# Altium footprint library Main_Board.PcbLib: 50 footprints (part 2 of 4)
Each footprint in its own frame and in the unit in brackets; x right, y up, seen from the top. Pads: shape width x height; smd on the part's side, far side on the other; paste and mask are expansions set on the pad; w line width, h text height; cw(c..) or ccw(c..) is an arc to the next point about the centre after c.
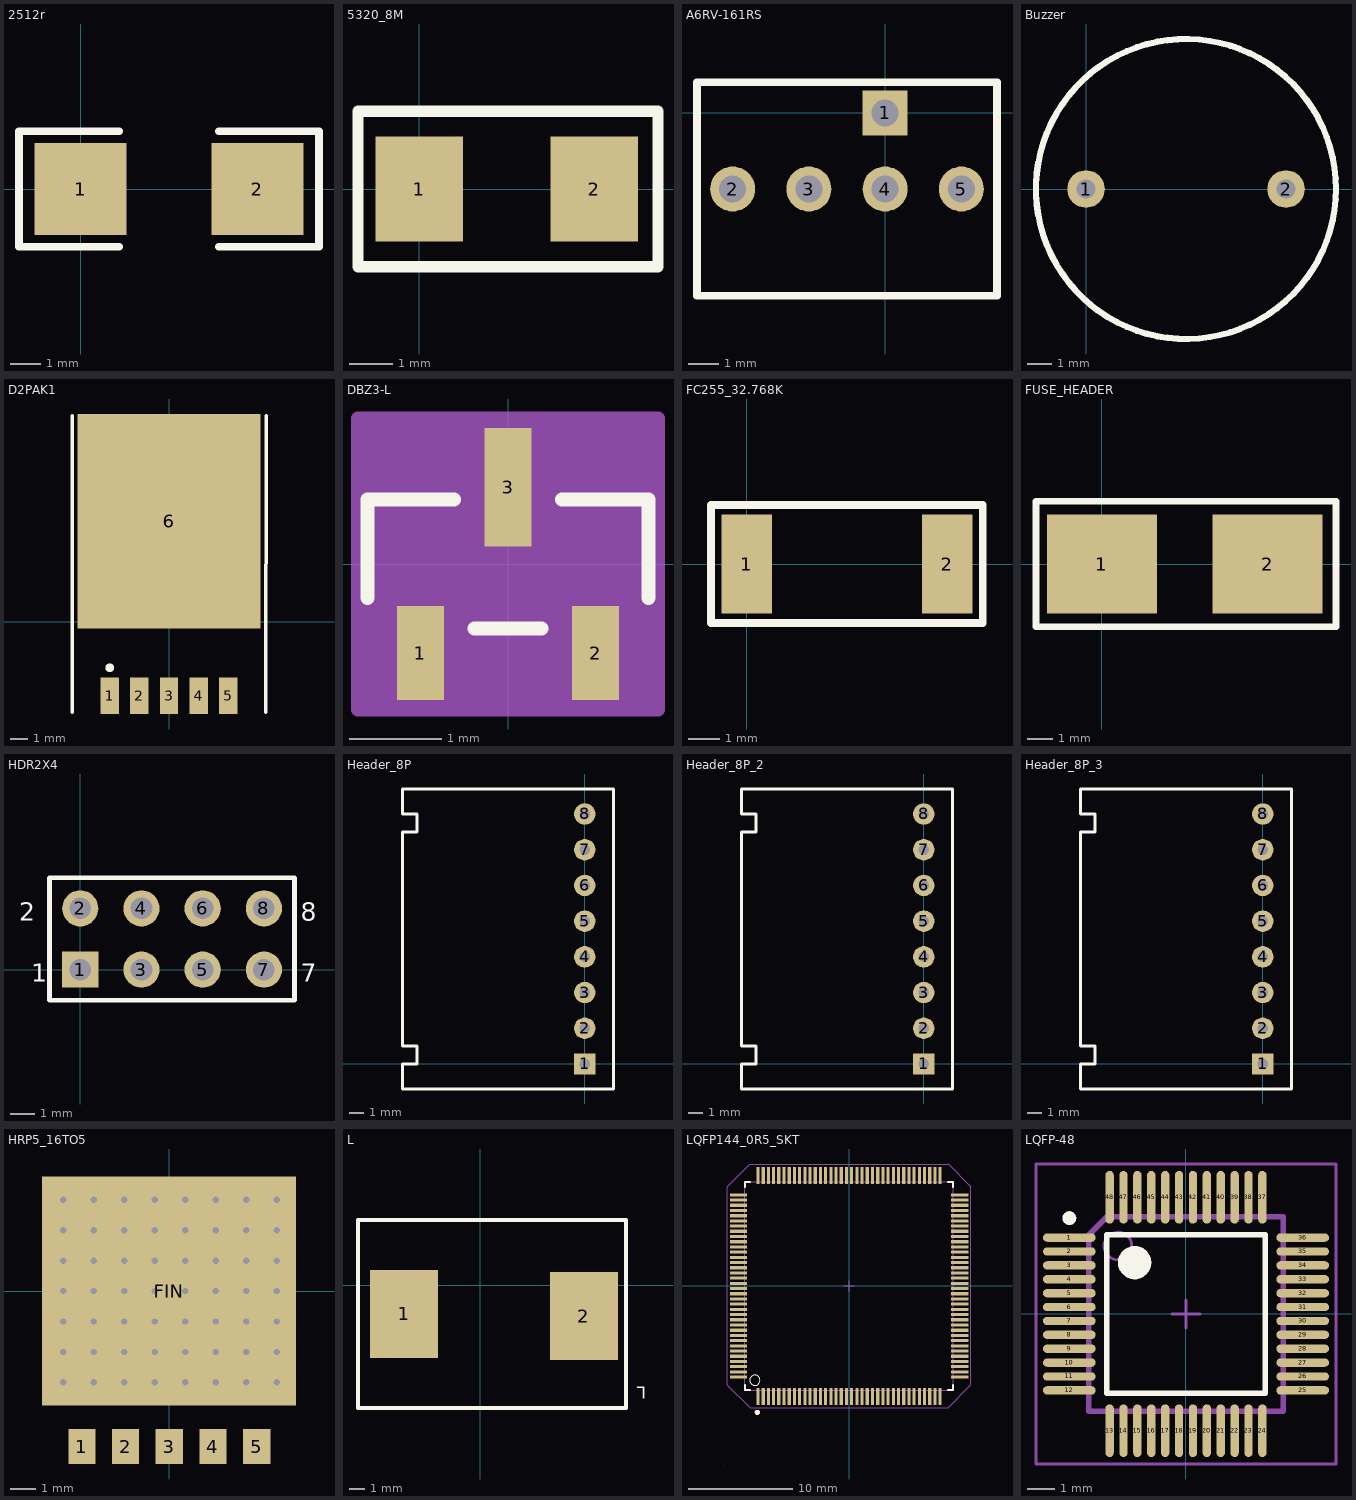
[diagram p1: the footprints below, top view; thin cyan lines are the x and y axes]

## 2512r [mil] "Chip Resistor; Body 6.3 x 3.2 mm (L"
height 23.62
pads (2):
  rect 120x120 smd: 1(0,0) 2(230,0)
Top Overlay:
  lines w10: 50,-75 -80,-75 -80,75 50,75 ; 180,-75 310,-75 310,75 180,75

## 5320_8M [mm]
pads (2):
  rect 2x2.4 smd: 1(0,0) 2(4,0)
Top Overlay:
  lines w0.254: -1.397,-1.778 5.461,-1.778 5.461,1.778 -1.397,1.778 -1.397,-1.778

## A6RV-161RS [mm] "旋转开?"
height 10
pads (5):
  rect 1.5x1.5 hole 0.9: 1(0,0)
  round 1.5 hole 0.9: 2(-5.08,-2.54) 3(-2.54,-2.54) 4(0,-2.54) 5(2.54,-2.54)
Top Overlay:
  lines w0.254: -6.27,-6.096 -6.27,1.016 ; 3.73,-6.096 -6.223,-6.096 3.73,-6.096 ; 3.73,-6.096 3.73,1.016 ; 3.73,1.016 -6.223,1.016 3.73,1.016

## Buzzer [mil]
height 250
pads (2):
  round 60 hole 30: 1(0,0) 2(320,0)
Top Overlay:
  circle w10: c160,0 r240

## D2PAK1 [mm]
height 5.08
pads (6):
  rect 1.05x2.1 smd: 1(-3.4,-4.225) 2(-1.7,-4.225) 3(0,-4.225) 4(1.7,-4.225) 5(3.4,-4.225)
  rect 10.5x12.3 smd: 6(0,5.766)
Top Overlay:
  circle w0.25: c-3.4,-2.625 r0.125
  lines w0.2: -5.55,-5.175 -5.55,11.825 ; 5.55,-5.175 5.563,11.825

## DBZ3-L [mil]
pads (3):
  rect 20x40 smd: 1(-37.4,-38) 2(37.4,-38)
  rect 20x50.5 smd: 3(0,32.75)
Top Overlay:
  lines w6: -60,-14.41 -60,27.5 -23.1,27.5 ; -14.3,-27.5 14.3,-27.5 ; 23.1,27.5 60,27.5 60,-14.41
Mechanical 13:
  lines w1: -60,-27.5 60,-27.5 60,27.5 -60,27.5 -60,-27.5 ; -47.4,-52 -47.4,-27.5 -27.4,-27.5 -27.4,-52 -47.4,-52 ; -10,27.5 10,27.5 10,52 -10,52 -10,27.5 ; 27.4,-52 27.4,-27.5 47.4,-27.5 47.4,-52 27.4,-52
Mechanical 15:
  region: 64,-62 -64,-62 -64,62 64,62
  lines w6: -64,-62 -64,62 64,62 64,-62 -64,-62
3D body: height 10, standoff 0, extent 0,0 10,10

## FC255_32.768K [mm]
pads (2):
  rect 1.63x3.2 smd: 1(0,0) 2(6.48,0)
Top Overlay:
  lines w0.254: -1.143,-1.905 7.62,-1.905 7.62,1.905 -1.143,1.905 -1.143,-1.905

## FUSE_HEADER [mm]
pads (2):
  rect 4.24x3.81 smd: 1(0,0) 2(6.38,0)
Top Overlay:
  lines w0.254: -2.54,-2.413 -2.54,2.413 9.017,2.413 9.017,-2.413 -2.54,-2.413

## HDR2X4 [mm] "Connector; Header; 4x2 Position"
pads (8):
  rect 1.5x1.5 hole 0.9: 1(0,0)
  round 1.5 hole 0.9: 2(0,2.54) 3(2.54,0) 4(2.54,2.54) 5(5.08,0) 6(5.08,2.54) 7(7.62,0) 8(7.62,2.54)
Top Overlay:
  lines w0.2: -1.27,-1.27 8.89,-1.27 8.89,3.81 -1.27,3.81 -1.27,-1.27
  text "2" at -2.54,2.032 h0.76
  text "1" at -2.032,-0.508 h0.76
  text "7" at 9.144,-0.508 h0.76
  text "8" at 9.144,2.032 h0.76

## Header_8P [mil] "Used for Motor connecter in ZJUNlict"
pads (8):
  rect 60x60 hole 30: 1(0,0)
  round 60 hole 30: 2(0,100) 3(0,200) 4(0,300) 5(0,400) 6(0,500) 7(0,600) 8(0,700)
Top Overlay:
  lines w8: -510,-70 80,-70 80,770 -510,770 -510,700 -470,700 -470,650 -510,650 -510,50 -470,50 -470,0 -510,0 -510,-70

## Header_8P_2 [mil]
pads (8):
  rect 60x60 hole 30: 1(0,0)
  round 60 hole 30: 2(0,100) 3(0,200) 4(0,300) 5(0,400) 6(0,500) 7(0,600) 8(0,700)
Top Overlay:
  lines w8: -510,-70 80,-70 80,770 -510,770 -510,700 -470,700 -470,650 -510,650 -510,50 -470,50 -470,0 -510,0 -510,-70

## Header_8P_3 [mil]
pads (8):
  rect 60x60 hole 30: 1(0,0)
  round 60 hole 30: 2(0,100) 3(0,200) 4(0,300) 5(0,400) 6(0,500) 7(0,600) 8(0,700)
Top Overlay:
  lines w8: -510,-70 -510,0 -470,0 -470,50 -510,50 -510,650 -470,650 -470,700 -510,700 -510,770 80,770 80,-70 -510,-70

## HRP5_16TO5 [mm]
pads (6):
  rect 1.07x1.37 smd: 1(-3.429,-6.125) 2(-1.709,-6.125) 3(0.011,-6.125) 4(1.731,-6.125) 5(3.451,-6.125)
  rect 10x9 smd: FIN(0,0)
via -2.965,3.6 diameter 0.508 hole 0.254
via -4.165,3.6 diameter 0.508 hole 0.254
via -1.765,3.6 diameter 0.508 hole 0.254
via 0.635,3.6 diameter 0.508 hole 0.254
via -0.565,3.6 diameter 0.508 hole 0.254
via 4.235,3.6 diameter 0.508 hole 0.254
via 3.035,3.6 diameter 0.508 hole 0.254
via 1.835,3.6 diameter 0.508 hole 0.254
via -2.965,2.4 diameter 0.508 hole 0.254
via -4.165,2.4 diameter 0.508 hole 0.254
via -1.765,2.4 diameter 0.508 hole 0.254
via 0.635,2.4 diameter 0.508 hole 0.254
via -0.565,2.4 diameter 0.508 hole 0.254
via 4.235,2.4 diameter 0.508 hole 0.254
via 3.035,2.4 diameter 0.508 hole 0.254
via 1.835,2.4 diameter 0.508 hole 0.254
via -2.965,1.2 diameter 0.508 hole 0.254
via -4.165,1.2 diameter 0.508 hole 0.254
via -1.765,1.2 diameter 0.508 hole 0.254
via 0.635,1.2 diameter 0.508 hole 0.254
via -0.565,1.2 diameter 0.508 hole 0.254
via 4.235,1.2 diameter 0.508 hole 0.254
via 3.035,1.2 diameter 0.508 hole 0.254
via 1.835,1.2 diameter 0.508 hole 0.254
via -2.965,0 diameter 0.508 hole 0.254
via -4.165,0 diameter 0.508 hole 0.254
via -1.765,0 diameter 0.508 hole 0.254
via 0.635,0 diameter 0.508 hole 0.254
via -0.565,0 diameter 0.508 hole 0.254
via 4.235,0 diameter 0.508 hole 0.254
via 3.035,0 diameter 0.508 hole 0.254
via 1.835,0 diameter 0.508 hole 0.254
via -2.965,-1.2 diameter 0.508 hole 0.254
via -4.165,-1.2 diameter 0.508 hole 0.254
via -1.765,-1.2 diameter 0.508 hole 0.254
via 0.635,-1.2 diameter 0.508 hole 0.254
via -0.565,-1.2 diameter 0.508 hole 0.254
via 4.235,-1.2 diameter 0.508 hole 0.254
via 3.035,-1.2 diameter 0.508 hole 0.254
via 1.835,-1.2 diameter 0.508 hole 0.254
via -2.965,-3.6 diameter 0.508 hole 0.254
via -4.165,-3.6 diameter 0.508 hole 0.254
via -1.765,-3.6 diameter 0.508 hole 0.254
via 0.635,-3.6 diameter 0.508 hole 0.254
via -0.565,-3.6 diameter 0.508 hole 0.254
via 4.235,-3.6 diameter 0.508 hole 0.254
via 3.035,-3.6 diameter 0.508 hole 0.254
via 1.835,-3.6 diameter 0.508 hole 0.254
via 1.835,-2.4 diameter 0.508 hole 0.254
via 3.035,-2.4 diameter 0.508 hole 0.254
via 4.235,-2.4 diameter 0.508 hole 0.254
via -0.565,-2.4 diameter 0.508 hole 0.254
via 0.635,-2.4 diameter 0.508 hole 0.254
via -1.765,-2.4 diameter 0.508 hole 0.254
via -4.165,-2.4 diameter 0.508 hole 0.254
via -2.965,-2.4 diameter 0.508 hole 0.254

## L [mil]
height 57.09
pads (2):
  rect 170x220 smd: 1(-190,-72.5) 2(260,-77.5)
Top Overlay:
  lines w10: -305,-307.5 -305,162.5 365,162.5 365,-307.5 -305,-307.5
  text "L" at 415,-255 h30

## LQFP144_0R5_SKT [mm] "32-bit MCU ARM-based Cortex-M3 20 X 20mm, 0.5mm Pitch, 1.6mm Max thickness"
height 1.6
pads (144):
  rect 0.3x1.65 smd: 1(-8.75,-10.625) 2(-8.25,-10.625) 3(-7.75,-10.625) 4(-7.25,-10.625) 5(-6.75,-10.625) 6(-6.25,-10.625) 7(-5.75,-10.625) 8(-5.25,-10.625) 9(-4.75,-10.625) 10(-4.25,-10.625) 11(-3.75,-10.625) 12(-3.25,-10.625) 13(-2.75,-10.625) 14(-2.25,-10.625) 15(-1.75,-10.625) 16(-1.25,-10.625) 17(-0.75,-10.625) 18(-0.25,-10.625) 19(0.25,-10.625) 20(0.75,-10.625) 21(1.25,-10.625) 22(1.75,-10.625) 23(2.25,-10.625) 24(2.75,-10.625) 25(3.25,-10.625) 26(3.75,-10.625) 27(4.25,-10.625) 28(4.75,-10.625) 29(5.25,-10.625) 30(5.75,-10.625) 31(6.25,-10.625) 32(6.75,-10.625) 33(7.25,-10.625) 34(7.75,-10.625) 35(8.25,-10.625) 36(8.75,-10.625) 73(8.75,10.625) 74(8.25,10.625) 75(7.75,10.625) 76(7.25,10.625) 77(6.75,10.625) 78(6.25,10.625) 79(5.75,10.625) 80(5.25,10.625) 81(4.75,10.625) 82(4.25,10.625) 83(3.75,10.625) 84(3.25,10.625) 85(2.75,10.625) 86(2.25,10.625) 87(1.75,10.625) 88(1.25,10.625) 89(0.75,10.625) 90(0.25,10.625) 91(-0.25,10.625) 92(-0.75,10.625) 93(-1.25,10.625) 94(-1.75,10.625) 95(-2.25,10.625) 96(-2.75,10.625) 97(-3.25,10.625) 98(-3.75,10.625) 99(-4.25,10.625) 100(-4.75,10.625) 101(-5.25,10.625) 102(-5.75,10.625) 103(-6.25,10.625) 104(-6.75,10.625) 105(-7.25,10.625) 106(-7.75,10.625) 107(-8.25,10.625) 108(-8.75,10.625)
  rect 1.65x0.3 smd: 37(10.625,-8.75) 38(10.625,-8.25) 39(10.625,-7.75) 40(10.625,-7.25) 41(10.625,-6.75) 42(10.625,-6.25) 43(10.625,-5.75) 44(10.625,-5.25) 45(10.625,-4.75) 46(10.625,-4.25) 47(10.625,-3.75) 48(10.625,-3.25) 49(10.625,-2.75) 50(10.625,-2.25) 51(10.625,-1.75) 52(10.625,-1.25) 53(10.625,-0.75) 54(10.625,-0.25) 55(10.625,0.25) 56(10.625,0.75) 57(10.625,1.25) 58(10.625,1.75) 59(10.625,2.25) 60(10.625,2.75) 61(10.625,3.25) 62(10.625,3.75) 63(10.625,4.25) 64(10.625,4.75) 65(10.625,5.25) 66(10.625,5.75) 67(10.625,6.25) 68(10.625,6.75) 69(10.625,7.25) 70(10.625,7.75) 71(10.625,8.25) 72(10.625,8.75) 109(-10.625,8.75) 110(-10.625,8.25) 111(-10.625,7.75) 112(-10.625,7.25) 113(-10.625,6.75) 114(-10.625,6.25) 115(-10.625,5.75) 116(-10.625,5.25) 117(-10.625,4.75) 118(-10.625,4.25) 119(-10.625,3.75) 120(-10.625,3.25) 121(-10.625,2.75) 122(-10.625,2.25) 123(-10.625,1.75) 124(-10.625,1.25) 125(-10.625,0.75) 126(-10.625,0.25) 127(-10.625,-0.25) 128(-10.625,-0.75) 129(-10.625,-1.25) 130(-10.625,-1.75) 131(-10.625,-2.25) 132(-10.625,-2.75) 133(-10.625,-3.25) 134(-10.625,-3.75) 135(-10.625,-4.25) 136(-10.625,-4.75) 137(-10.625,-5.25) 138(-10.625,-5.75) 139(-10.625,-6.25) 140(-10.625,-6.75) 141(-10.625,-7.25) 142(-10.625,-7.75) 143(-10.625,-8.25) 144(-10.625,-8.75)
Top Overlay:
  circle w0.25: c-8.812,-12.141 r0.125
  circle w0.1: c-9.05,-9.05 r0.5
  lines w0.2: -10,-9.5 -10,-10 -9.5,-10 ; -10,9.5 -10,10 -9.5,10 ; 9.5,-10 10,-10 10,-9.5 ; 9.5,10 10,10 10,9.5
Mechanical 13:
  lines w0.1: -10,-10 -10,10 10,10 10,-10 -10,-10
  lines w0.127: -12.1,-17.1 -12.1,-17.1
Mechanical 15:
  lines w0.1: -11.7,-9.541 -11.685,-9.526 -9.511,-11.7 ; -11.7,-9.5 -11.7,9.5 ; -11.7,9.511 -11.715,9.526 -9.541,11.7 ; -9.5,-11.7 9.5,-11.7 ; -9.5,11.7 9.5,11.7 ; -0.5,0 0.5,0 ; 0,-0.5 0,0.5 ; 9.511,11.7 9.526,11.715 11.7,9.541 ; 9.541,-11.7 9.526,-11.685 11.7,-9.511 ; 11.7,-9.5 11.7,9.5
3D body: height 7, standoff 0, extent 10.269,-8.852 10.371,-8.648
3D body: height 0.1, standoff 0, extent 10.371,-8.852 10.93,-8.648
3D body: height 0.1, standoff 0, extent 10.371,-8.352 10.93,-8.148
3D body: height 7, standoff 0, extent 10.269,-8.352 10.371,-8.148
3D body: height 0.1, standoff 0, extent 10.371,-7.852 10.93,-7.648
3D body: height 7, standoff 0, extent 10.269,-7.852 10.371,-7.648
3D body: height 0.1, standoff 0, extent 10.371,-7.352 10.93,-7.148
3D body: height 7, standoff 0, extent 10.269,-7.352 10.371,-7.148
3D body: height 0.1, standoff 0, extent 10.371,-6.852 10.93,-6.648
3D body: height 7, standoff 0, extent 10.269,-6.852 10.371,-6.648
3D body: height 0.1, standoff 0, extent 10.371,-6.352 10.93,-6.148
3D body: height 7, standoff 0, extent 10.269,-6.352 10.371,-6.148
3D body: height 0.1, standoff 0, extent 10.371,-6.352 10.93,-6.148
3D body: height 7, standoff 0, extent 10.269,-6.352 10.371,-6.148
3D body: height 0.1, standoff 0, extent 10.371,-5.852 10.93,-5.648
3D body: height 7, standoff 0, extent 10.269,-5.852 10.371,-5.648
3D body: height 0.1, standoff 0, extent 10.371,-5.352 10.93,-5.148
3D body: height 7, standoff 0, extent 10.269,-5.352 10.371,-5.148
3D body: height 0.1, standoff 0, extent 10.371,-4.852 10.93,-4.648
3D body: height 7, standoff 0, extent 10.269,-4.852 10.371,-4.648
3D body: height 0.1, standoff 0, extent 10.371,-4.352 10.93,-4.148
3D body: height 7, standoff 0, extent 10.269,-4.352 10.371,-4.148
3D body: height 0.1, standoff 0, extent 10.371,-3.852 10.93,-3.648
3D body: height 7, standoff 0, extent 10.269,-3.852 10.371,-3.648
3D body: height 0.1, standoff 0, extent 10.371,-3.352 10.93,-3.148
3D body: height 7, standoff 0, extent 10.269,-3.352 10.371,-3.148
3D body: height 0.1, standoff 0, extent 10.371,-2.852 10.93,-2.648
3D body: height 7, standoff 0, extent 10.269,-2.852 10.371,-2.648
3D body: height 0.1, standoff 0, extent 10.371,-2.352 10.93,-2.148
3D body: height 7, standoff 0, extent 10.269,-2.352 10.371,-2.148
3D body: height 0.1, standoff 0, extent 10.371,-1.852 10.93,-1.648
3D body: height 7, standoff 0, extent 10.269,-1.852 10.371,-1.648
3D body: height 0.1, standoff 0, extent 10.371,-1.352 10.93,-1.148
3D body: height 7, standoff 0, extent 10.269,-1.352 10.371,-1.148
3D body: height 0.1, standoff 0, extent 10.371,-0.852 10.93,-0.648
3D body: height 7, standoff 0, extent 10.269,-0.852 10.371,-0.648
3D body: height 0.1, standoff 0, extent 10.371,-0.352 10.93,-0.148
3D body: height 7, standoff 0, extent 10.269,-0.352 10.371,-0.148
3D body: height 0.1, standoff 0, extent 10.371,0.148 10.93,0.352
3D body: height 7, standoff 0, extent 10.269,0.148 10.371,0.352
3D body: height 0.1, standoff 0, extent 10.371,0.648 10.93,0.852
3D body: height 7, standoff 0, extent 10.269,0.648 10.371,0.852
3D body: height 0.1, standoff 0, extent 10.371,1.148 10.93,1.352
3D body: height 7, standoff 0, extent 10.269,1.148 10.371,1.352
3D body: height 0.1, standoff 0, extent 10.371,1.648 10.93,1.852
3D body: height 7, standoff 0, extent 10.269,1.648 10.371,1.852
3D body: height 0.1, standoff 0, extent 10.371,2.148 10.93,2.352
3D body: height 7, standoff 0, extent 10.269,2.148 10.371,2.352
3D body: height 0.1, standoff 0, extent 10.371,2.648 10.93,2.852
3D body: height 7, standoff 0, extent 10.269,2.648 10.371,2.852
3D body: height 0.1, standoff 0, extent 10.371,3.148 10.93,3.352
3D body: height 7, standoff 0, extent 10.269,3.148 10.371,3.352
3D body: height 0.1, standoff 0, extent 10.371,3.648 10.93,3.852
3D body: height 7, standoff 0, extent 10.269,3.648 10.371,3.852
3D body: height 0.1, standoff 0, extent 10.371,4.148 10.93,4.352
3D body: height 7, standoff 0, extent 10.269,4.148 10.371,4.352
3D body: height 0.1, standoff 0, extent 10.371,4.648 10.93,4.852
3D body: height 7, standoff 0, extent 10.269,4.648 10.371,4.852
3D body: height 0.1, standoff 0, extent 10.371,5.148 10.93,5.352
3D body: height 7, standoff 0, extent 10.269,5.148 10.371,5.352
3D body: height 0.1, standoff 0, extent 10.371,5.648 10.93,5.852
3D body: height 7, standoff 0, extent 10.269,5.648 10.371,5.852
3D body: height 0.1, standoff 0, extent 10.371,6.148 10.93,6.352
3D body: height 7, standoff 0, extent 10.269,6.148 10.371,6.352
3D body: height 0.1, standoff 0, extent 10.371,6.648 10.93,6.852
3D body: height 7, standoff 0, extent 10.269,6.648 10.371,6.852
3D body: height 0.1, standoff 0, extent 10.371,7.148 10.93,7.352
3D body: height 7, standoff 0, extent 10.269,7.148 10.371,7.352
3D body: height 0.1, standoff 0, extent 10.371,7.648 10.93,7.852
3D body: height 7, standoff 0, extent 10.269,7.648 10.371,7.852
3D body: height 0.1, standoff 0, extent 10.371,8.148 10.93,8.352
3D body: height 7, standoff 0, extent 10.269,8.148 10.371,8.352
3D body: height 0.1, standoff 0, extent 10.371,8.648 10.93,8.852
3D body: height 7, standoff 0, extent 10.269,8.648 10.371,8.852
3D body: height 7, standoff 0, extent 8.648,10.269 8.852,10.371
3D body: height 0.1, standoff 0, extent 8.648,10.371 8.852,10.93
3D body: height 0.1, standoff 0, extent 8.148,10.371 8.352,10.93
3D body: height 7, standoff 0, extent 8.148,10.269 8.352,10.371
3D body: height 0.1, standoff 0, extent 7.648,10.371 7.852,10.93
3D body: height 7, standoff 0, extent 7.648,10.269 7.852,10.371
3D body: height 0.1, standoff 0, extent 7.148,10.371 7.352,10.93
3D body: height 7, standoff 0, extent 7.148,10.269 7.352,10.371
3D body: height 0.1, standoff 0, extent 6.648,10.371 6.852,10.93
3D body: height 7, standoff 0, extent 6.648,10.269 6.852,10.371
3D body: height 0.1, standoff 0, extent 6.148,10.371 6.352,10.93
3D body: height 7, standoff 0, extent 6.148,10.269 6.352,10.371
3D body: height 0.1, standoff 0, extent 6.148,10.371 6.352,10.93
3D body: height 7, standoff 0, extent 6.148,10.269 6.352,10.371
3D body: height 0.1, standoff 0, extent 5.648,10.371 5.852,10.93
3D body: height 7, standoff 0, extent 5.648,10.269 5.852,10.371
3D body: height 0.1, standoff 0, extent 5.148,10.371 5.352,10.93
3D body: height 7, standoff 0, extent 5.148,10.269 5.352,10.371
3D body: height 0.1, standoff 0, extent 4.648,10.371 4.852,10.93
3D body: height 7, standoff 0, extent 4.648,10.269 4.852,10.371
3D body: height 0.1, standoff 0, extent 4.148,10.371 4.352,10.93
3D body: height 7, standoff 0, extent 4.148,10.269 4.352,10.371
3D body: height 0.1, standoff 0, extent 3.648,10.371 3.852,10.93
3D body: height 7, standoff 0, extent 3.648,10.269 3.852,10.371
3D body: height 0.1, standoff 0, extent 3.148,10.371 3.352,10.93
3D body: height 7, standoff 0, extent 3.148,10.269 3.352,10.371
3D body: height 0.1, standoff 0, extent 2.648,10.371 2.852,10.93
3D body: height 7, standoff 0, extent 2.648,10.269 2.852,10.371
3D body: height 0.1, standoff 0, extent 2.148,10.371 2.352,10.93
3D body: height 7, standoff 0, extent 2.148,10.269 2.352,10.371
3D body: height 0.1, standoff 0, extent 1.648,10.371 1.852,10.93
3D body: height 7, standoff 0, extent 1.648,10.269 1.852,10.371
3D body: height 0.1, standoff 0, extent 1.148,10.371 1.352,10.93
3D body: height 7, standoff 0, extent 1.148,10.269 1.352,10.371
3D body: height 0.1, standoff 0, extent 0.648,10.371 0.852,10.93
3D body: height 7, standoff 0, extent 0.648,10.269 0.852,10.371
3D body: height 0.1, standoff 0, extent 0.148,10.371 0.352,10.93
3D body: height 7, standoff 0, extent 0.148,10.269 0.352,10.371
3D body: height 0.1, standoff 0, extent -0.352,10.371 -0.148,10.93
3D body: height 7, standoff 0, extent -0.352,10.269 -0.148,10.371
3D body: height 0.1, standoff 0, extent -0.852,10.371 -0.648,10.93
3D body: height 7, standoff 0, extent -0.852,10.269 -0.648,10.371
3D body: height 0.1, standoff 0, extent -1.352,10.371 -1.148,10.93
3D body: height 7, standoff 0, extent -1.352,10.269 -1.148,10.371
3D body: height 0.1, standoff 0, extent -1.852,10.371 -1.648,10.93
3D body: height 7, standoff 0, extent -1.852,10.269 -1.648,10.371
3D body: height 0.1, standoff 0, extent -2.352,10.371 -2.148,10.93
3D body: height 7, standoff 0, extent -2.352,10.269 -2.148,10.371
3D body: height 0.1, standoff 0, extent -2.852,10.371 -2.648,10.93
3D body: height 7, standoff 0, extent -2.852,10.269 -2.648,10.371
3D body: height 0.1, standoff 0, extent -3.352,10.371 -3.148,10.93
3D body: height 7, standoff 0, extent -3.352,10.269 -3.148,10.371
3D body: height 0.1, standoff 0, extent -3.852,10.371 -3.648,10.93
3D body: height 7, standoff 0, extent -3.852,10.269 -3.648,10.371
3D body: height 0.1, standoff 0, extent -4.352,10.371 -4.148,10.93
3D body: height 7, standoff 0, extent -4.352,10.269 -4.148,10.371
3D body: height 0.1, standoff 0, extent -4.852,10.371 -4.648,10.93
3D body: height 7, standoff 0, extent -4.852,10.269 -4.648,10.371
3D body: height 0.1, standoff 0, extent -5.352,10.371 -5.148,10.93
3D body: height 7, standoff 0, extent -5.352,10.269 -5.148,10.371
3D body: height 0.1, standoff 0, extent -5.852,10.371 -5.648,10.93
3D body: height 7, standoff 0, extent -5.852,10.269 -5.648,10.371
3D body: height 0.1, standoff 0, extent -6.352,10.371 -6.148,10.93
3D body: height 7, standoff 0, extent -6.352,10.269 -6.148,10.371
3D body: height 0.1, standoff 0, extent -6.852,10.371 -6.648,10.93
3D body: height 7, standoff 0, extent -6.852,10.269 -6.648,10.371
3D body: height 0.1, standoff 0, extent -7.352,10.371 -7.148,10.93
3D body: height 7, standoff 0, extent -7.352,10.269 -7.148,10.371
3D body: height 0.1, standoff 0, extent -7.852,10.371 -7.648,10.93
3D body: height 7, standoff 0, extent -7.852,10.269 -7.648,10.371
3D body: height 0.1, standoff 0, extent -8.352,10.371 -8.148,10.93
3D body: height 7, standoff 0, extent -8.352,10.269 -8.148,10.371
3D body: height 0.1, standoff 0, extent -8.852,10.371 -8.648,10.93
3D body: height 7, standoff 0, extent -8.852,10.269 -8.648,10.371
3D body: height 7, standoff 0, extent -10.371,8.648 -10.269,8.852
3D body: height 0.1, standoff 0, extent -10.93,8.648 -10.371,8.852
3D body: height 0.1, standoff 0, extent -10.93,8.148 -10.371,8.352
3D body: height 7, standoff 0, extent -10.371,8.148 -10.269,8.352
3D body: height 0.1, standoff 0, extent -10.93,7.648 -10.371,7.852
3D body: height 7, standoff 0, extent -10.371,7.648 -10.269,7.852
3D body: height 0.1, standoff 0, extent -10.93,7.148 -10.371,7.352
3D body: height 7, standoff 0, extent -10.371,7.148 -10.269,7.352
3D body: height 0.1, standoff 0, extent -10.93,6.648 -10.371,6.852
3D body: height 7, standoff 0, extent -10.371,6.648 -10.269,6.852
3D body: height 0.1, standoff 0, extent -10.93,6.148 -10.371,6.352
3D body: height 7, standoff 0, extent -10.371,6.148 -10.269,6.352
3D body: height 0.1, standoff 0, extent -10.93,6.148 -10.371,6.352
3D body: height 7, standoff 0, extent -10.371,6.148 -10.269,6.352
3D body: height 0.1, standoff 0, extent -10.93,5.648 -10.371,5.852
3D body: height 7, standoff 0, extent -10.371,5.648 -10.269,5.852
3D body: height 0.1, standoff 0, extent -10.93,5.148 -10.371,5.352
3D body: height 7, standoff 0, extent -10.371,5.148 -10.269,5.352
3D body: height 0.1, standoff 0, extent -10.93,4.648 -10.371,4.852
3D body: height 7, standoff 0, extent -10.371,4.648 -10.269,4.852
3D body: height 0.1, standoff 0, extent -10.93,4.148 -10.371,4.352
3D body: height 7, standoff 0, extent -10.371,4.148 -10.269,4.352
3D body: height 0.1, standoff 0, extent -10.93,3.648 -10.371,3.852
3D body: height 7, standoff 0, extent -10.371,3.648 -10.269,3.852
3D body: height 0.1, standoff 0, extent -10.93,3.148 -10.371,3.352
3D body: height 7, standoff 0, extent -10.371,3.148 -10.269,3.352
3D body: height 0.1, standoff 0, extent -10.93,2.648 -10.371,2.852
3D body: height 7, standoff 0, extent -10.371,2.648 -10.269,2.852
3D body: height 0.1, standoff 0, extent -10.93,2.148 -10.371,2.352
3D body: height 7, standoff 0, extent -10.371,2.148 -10.269,2.352
3D body: height 0.1, standoff 0, extent -10.93,1.648 -10.371,1.852
3D body: height 7, standoff 0, extent -10.371,1.648 -10.269,1.852
3D body: height 0.1, standoff 0, extent -10.93,1.148 -10.371,1.352
3D body: height 7, standoff 0, extent -10.371,1.148 -10.269,1.352
3D body: height 0.1, standoff 0, extent -10.93,0.648 -10.371,0.852
3D body: height 7, standoff 0, extent -10.371,0.648 -10.269,0.852
3D body: height 0.1, standoff 0, extent -10.93,0.148 -10.371,0.352
3D body: height 7, standoff 0, extent -10.371,0.148 -10.269,0.352
3D body: height 0.1, standoff 0, extent -10.93,-0.352 -10.371,-0.148
3D body: height 7, standoff 0, extent -10.371,-0.352 -10.269,-0.148
3D body: height 0.1, standoff 0, extent -10.93,-0.852 -10.371,-0.648
3D body: height 7, standoff 0, extent -10.371,-0.852 -10.269,-0.648
3D body: height 0.1, standoff 0, extent -10.93,-1.352 -10.371,-1.148
3D body: height 7, standoff 0, extent -10.371,-1.352 -10.269,-1.148
3D body: height 0.1, standoff 0, extent -10.93,-1.852 -10.371,-1.648
3D body: height 7, standoff 0, extent -10.371,-1.852 -10.269,-1.648
3D body: height 0.1, standoff 0, extent -10.93,-2.352 -10.371,-2.148
3D body: height 7, standoff 0, extent -10.371,-2.352 -10.269,-2.148
3D body: height 0.1, standoff 0, extent -10.93,-2.852 -10.371,-2.648
3D body: height 7, standoff 0, extent -10.371,-2.852 -10.269,-2.648
3D body: height 0.1, standoff 0, extent -10.93,-3.352 -10.371,-3.148
3D body: height 7, standoff 0, extent -10.371,-3.352 -10.269,-3.148
3D body: height 0.1, standoff 0, extent -10.93,-3.852 -10.371,-3.648
3D body: height 7, standoff 0, extent -10.371,-3.852 -10.269,-3.648
3D body: height 0.1, standoff 0, extent -10.93,-4.352 -10.371,-4.148
3D body: height 7, standoff 0, extent -10.371,-4.352 -10.269,-4.148
3D body: height 0.1, standoff 0, extent -10.93,-4.852 -10.371,-4.648
3D body: height 7, standoff 0, extent -10.371,-4.852 -10.269,-4.648
3D body: height 0.1, standoff 0, extent -10.93,-5.352 -10.371,-5.148
3D body: height 7, standoff 0, extent -10.371,-5.352 -10.269,-5.148
3D body: height 0.1, standoff 0, extent -10.93,-5.852 -10.371,-5.648
3D body: height 7, standoff 0, extent -10.371,-5.852 -10.269,-5.648
3D body: height 0.1, standoff 0, extent -10.93,-6.352 -10.371,-6.148
3D body: height 7, standoff 0, extent -10.371,-6.352 -10.269,-6.148
3D body: height 0.1, standoff 0, extent -10.93,-6.852 -10.371,-6.648
3D body: height 7, standoff 0, extent -10.371,-6.852 -10.269,-6.648
3D body: height 0.1, standoff 0, extent -10.93,-7.352 -10.371,-7.148
3D body: height 7, standoff 0, extent -10.371,-7.352 -10.269,-7.148
3D body: height 0.1, standoff 0, extent -10.93,-7.852 -10.371,-7.648
3D body: height 7, standoff 0, extent -10.371,-7.852 -10.269,-7.648
3D body: height 0.1, standoff 0, extent -10.93,-8.352 -10.371,-8.148
3D body: height 7, standoff 0, extent -10.371,-8.352 -10.269,-8.148
3D body: height 0.1, standoff 0, extent -10.93,-8.852 -10.371,-8.648
3D body: height 7, standoff 0, extent -10.371,-8.852 -10.269,-8.648
3D body: height 7, standoff 0, extent 8.648,-10.371 8.852,-10.269
3D body: height 0.1, standoff 0, extent 8.648,-10.93 8.852,-10.371
3D body: height 7, standoff 0, extent 8.148,-10.371 8.352,-10.269
3D body: height 0.1, standoff 0, extent 8.148,-10.93 8.352,-10.371
3D body: height 7, standoff 0, extent 7.648,-10.371 7.852,-10.269
3D body: height 0.1, standoff 0, extent 7.648,-10.93 7.852,-10.371
3D body: height 7, standoff 0, extent 7.148,-10.371 7.352,-10.269
3D body: height 0.1, standoff 0, extent 7.148,-10.93 7.352,-10.371
3D body: height 7, standoff 0, extent 6.648,-10.371 6.852,-10.269
3D body: height 0.1, standoff 0, extent 6.648,-10.93 6.852,-10.371
3D body: height 7, standoff 0, extent 6.148,-10.371 6.352,-10.269
3D body: height 0.1, standoff 0, extent 6.148,-10.93 6.352,-10.371
3D body: height 7, standoff 0, extent 5.648,-10.371 5.852,-10.269
3D body: height 0.1, standoff 0, extent 5.648,-10.93 5.852,-10.371
3D body: height 7, standoff 0, extent 5.148,-10.371 5.352,-10.269
3D body: height 0.1, standoff 0, extent 5.148,-10.93 5.352,-10.371
3D body: height 7, standoff 0, extent 4.648,-10.371 4.852,-10.269
3D body: height 0.1, standoff 0, extent 4.648,-10.93 4.852,-10.371
3D body: height 7, standoff 0, extent 4.148,-10.371 4.352,-10.269
3D body: height 0.1, standoff 0, extent 4.148,-10.93 4.352,-10.371
3D body: height 7, standoff 0, extent 3.648,-10.371 3.852,-10.269
3D body: height 0.1, standoff 0, extent 3.648,-10.93 3.852,-10.371
3D body: height 7, standoff 0, extent 3.148,-10.371 3.352,-10.269
3D body: height 0.1, standoff 0, extent 3.148,-10.93 3.352,-10.371
3D body: height 7, standoff 0, extent 2.648,-10.371 2.852,-10.269
3D body: height 0.1, standoff 0, extent 2.648,-10.93 2.852,-10.371
3D body: height 7, standoff 0, extent 2.148,-10.371 2.352,-10.269
3D body: height 0.1, standoff 0, extent 2.148,-10.93 2.352,-10.371
3D body: height 7, standoff 0, extent 1.648,-10.371 1.852,-10.269
3D body: height 0.1, standoff 0, extent 1.648,-10.93 1.852,-10.371
3D body: height 7, standoff 0, extent 1.148,-10.371 1.352,-10.269
3D body: height 0.1, standoff 0, extent 1.148,-10.93 1.352,-10.371
3D body: height 7, standoff 0, extent 0.648,-10.371 0.852,-10.269
3D body: height 0.1, standoff 0, extent 0.648,-10.93 0.852,-10.371
3D body: height 7, standoff 0, extent 0.148,-10.371 0.352,-10.269
3D body: height 0.1, standoff 0, extent 0.148,-10.93 0.352,-10.371
3D body: height 7, standoff 0, extent -0.352,-10.371 -0.148,-10.269
3D body: height 0.1, standoff 0, extent -0.352,-10.93 -0.148,-10.371
3D body: height 7, standoff 0, extent -0.852,-10.371 -0.648,-10.269
3D body: height 0.1, standoff 0, extent -0.852,-10.93 -0.648,-10.371
3D body: height 7, standoff 0, extent -1.352,-10.371 -1.148,-10.269
3D body: height 0.1, standoff 0, extent -1.352,-10.93 -1.148,-10.371
3D body: height 7, standoff 0, extent -1.852,-10.371 -1.648,-10.269
3D body: height 0.1, standoff 0, extent -1.852,-10.93 -1.648,-10.371
3D body: height 7, standoff 0, extent -2.352,-10.371 -2.148,-10.269
3D body: height 0.1, standoff 0, extent -2.352,-10.93 -2.148,-10.371
3D body: height 7, standoff 0, extent -2.852,-10.371 -2.648,-10.269
3D body: height 0.1, standoff 0, extent -2.852,-10.93 -2.648,-10.371
3D body: height 7, standoff 0, extent -3.352,-10.371 -3.148,-10.269
3D body: height 0.1, standoff 0, extent -3.352,-10.93 -3.148,-10.371
3D body: height 7, standoff 0, extent -3.852,-10.371 -3.648,-10.269
3D body: height 0.1, standoff 0, extent -3.852,-10.93 -3.648,-10.371
3D body: height 7, standoff 0, extent -4.352,-10.371 -4.148,-10.269
3D body: height 0.1, standoff 0, extent -4.352,-10.93 -4.148,-10.371
3D body: height 7, standoff 0, extent -4.852,-10.371 -4.648,-10.269
3D body: height 0.1, standoff 0, extent -4.852,-10.93 -4.648,-10.371
3D body: height 7, standoff 0, extent -5.352,-10.371 -5.148,-10.269
3D body: height 0.1, standoff 0, extent -5.352,-10.93 -5.148,-10.371
3D body: height 7, standoff 0, extent -5.852,-10.371 -5.648,-10.269
3D body: height 0.1, standoff 0, extent -5.852,-10.93 -5.648,-10.371
3D body: height 7, standoff 0, extent -6.352,-10.371 -6.148,-10.269
3D body: height 0.1, standoff 0, extent -6.352,-10.93 -6.148,-10.371
3D body: height 7, standoff 0, extent -6.352,-10.371 -6.148,-10.269
3D body: height 0.1, standoff 0, extent -6.352,-10.93 -6.148,-10.371
3D body: height 7, standoff 0, extent -6.852,-10.371 -6.648,-10.269
3D body: height 0.1, standoff 0, extent -6.852,-10.93 -6.648,-10.371
3D body: height 7, standoff 0, extent -7.352,-10.371 -7.148,-10.269
3D body: height 0.1, standoff 0, extent -7.352,-10.93 -7.148,-10.371
3D body: height 7, standoff 0, extent -7.852,-10.371 -7.648,-10.269
3D body: height 0.1, standoff 0, extent -7.852,-10.93 -7.648,-10.371
3D body: height 7, standoff 0, extent -8.352,-10.371 -8.148,-10.269
3D body: height 0.1, standoff 0, extent -8.352,-10.93 -8.148,-10.371
3D body: height 0.1, standoff 0, extent -8.852,-10.93 -8.648,-10.371
3D body: height 7, standoff 0, extent -8.852,-10.371 -8.648,-10.269

## LQFP-48 [mm] "TSQFP, 48-Leads, Body 9,0x9,0mm (max), Pitch 0,50mm, IPC Medium Density"
height 1.2
pads (48):
  oval 1.9x0.3 smd: 1(-4.2,2.75) 2(-4.2,2.25) 3(-4.2,1.75) 4(-4.2,1.25) 5(-4.2,0.75) 6(-4.2,0.25) 7(-4.2,-0.25) 8(-4.2,-0.75) 9(-4.2,-1.25) 10(-4.2,-1.75) 11(-4.2,-2.25) 12(-4.2,-2.75) 25(4.2,-2.75) 26(4.2,-2.25) 27(4.2,-1.75) 28(4.2,-1.25) 29(4.2,-0.75) 30(4.2,-0.25) 31(4.2,0.25) 32(4.2,0.75) 33(4.2,1.25) 34(4.2,1.75) 35(4.2,2.25) 36(4.2,2.75)
  oval 0.3x1.9 smd: 13(-2.75,-4.2) 14(-2.25,-4.2) 15(-1.75,-4.2) 16(-1.25,-4.2) 17(-0.75,-4.2) 18(-0.25,-4.2) 19(0.25,-4.2) 20(0.75,-4.2) 21(1.25,-4.2) 22(1.75,-4.2) 23(2.25,-4.2) 24(2.75,-4.2) 37(2.75,4.2) 38(2.25,4.2) 39(1.75,4.2) 40(1.25,4.2) 41(0.75,4.2) 42(0.25,4.2) 43(-0.25,4.2) 44(-0.75,4.2) 45(-1.25,4.2) 46(-1.75,4.2) 47(-2.25,4.2) 48(-2.75,4.2)
Top Overlay:
  circle w0.6: c-1.85,1.85 r0.3
  circle w0.25: c-4.2,3.45 r0.125
  lines w0.2: -2.85,-2.85 2.85,-2.85 2.85,2.85 -2.85,2.85 -2.85,-2.85
Mechanical 13:
  circle w0.1: c-2.45,2.45 r0.5
  lines w0.2: -3.5,-3.5 -3.5,2.85 -2.85,3.5 3.5,3.5 3.5,-3.5 -3.5,-3.5
Mechanical 15:
  lines w0.1: -0.5,0 0.5,0 ; 0,-0.5 0,0.5 ; -5.4,-5.4 5.4,-5.4 5.4,5.4 -5.4,5.4 -5.4,-5.4
3D body "LQFP48.step": height 1.5, standoff 0, extent -4.5,-4.5 4.5,4.5